# EAGLE library part 0857931020 (library CONNECTORs)
1 Port RJ45 Magjack Connector Through Hole 10/100/1000 Base-T, AutoMDIX
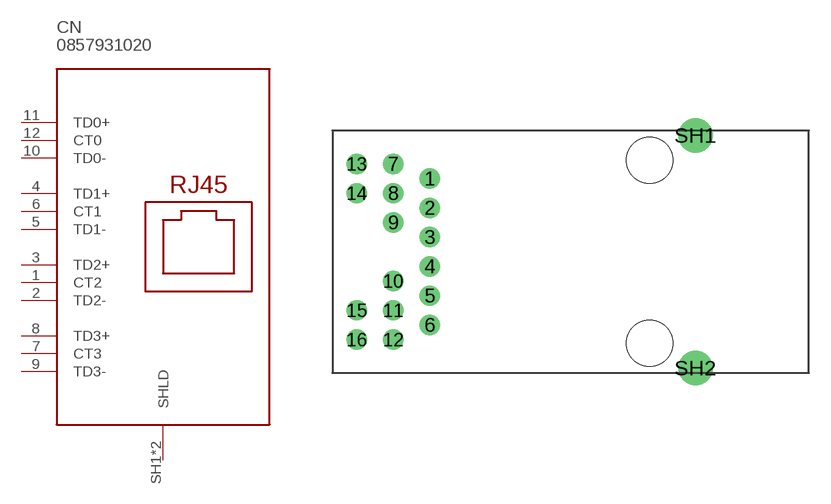
[diagram p59: symbol with the pads of 0857931020; footprint 0857931020]

Designator prefix CN

## 0857931020 (DIGIKEY: WM10314-ND; HEIGHT: 15.05; PRICE_PER: 4.22; VALUE: Gb RJ45 + MAG)  [0857931020]
1  CT2
2  TD2-
3  TD2+
4  TD1+
5  TD1-
6  CT1
7  CT3
8  TD3+
9  TD3-
10  TD0-
11  TD0+
12  CT0
SH1  SHLD
SH2  SHLD

## Footprint 0857931020 (pad centres in mm)
drill 0.9: 1 -15.24,5.075; 2 -15.24,3.045; 3 -15.24,1.015; 4 -15.24,-1.015; 5 -15.24,-3.045; 6 -15.24,-5.075; 7 -17.78,6.09; 8 -17.78,4.06; 9 -17.78,2.03; 10 -17.78,-2.03; 11 -17.78,-4.06; 12 -17.78,-6.09; 13 -20.32,6.09; 14 -20.32,4.06; 15 -20.32,-4.06; 16 -20.32,-6.09
drill 1.6: SH1 3.18,8.065; SH2 3.18,-8.065
hole 3.2 at 0,6.35
hole 3.2 at 0,-6.35